# Altium footprint library alientek_sch_lib.PcbLib: 370 footprints (part 24 of 24)
Each footprint in its own frame and in the unit in brackets; x right, y up, seen from the top. Pads: shape width x height; smd on the part's side, far side on the other; paste and mask are expansions set on the pad; w line width, h text height; cw(c..) or ccw(c..) is an arc to the next point about the centre after c.
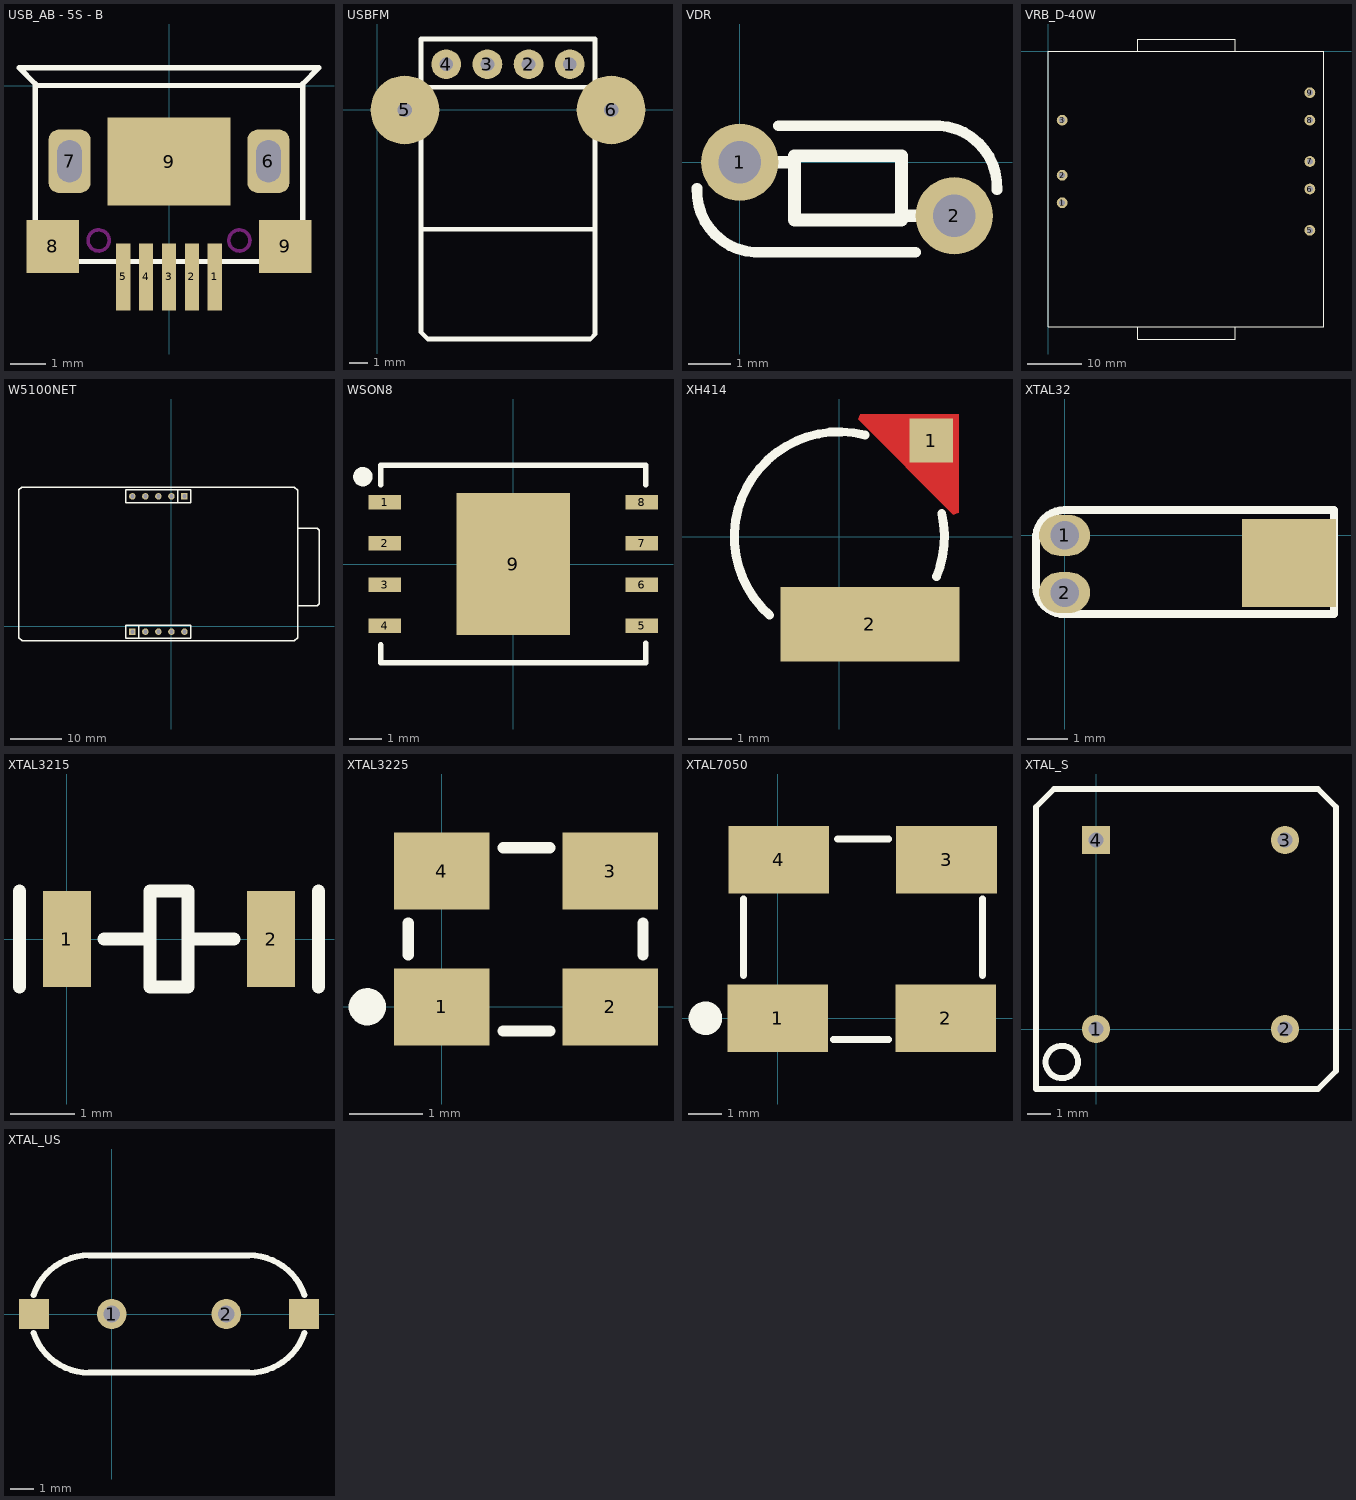
[diagram p23: the footprints below, top view; thin cyan lines are the x and y axes]

## USB_AB - 5S - B [mm] "Micro usb座 5pin"
height 3
pads (10):
  rect 0.4x1.9 smd: 1(1.3,-5.436) 2(0.65,-5.436) 3(0,-5.436) 4(-0.65,-5.436) 5(-1.3,-5.436)
  rrect50% 1.2x1.8 hole 0.7 slot 1.2 at 90 deg: 6(2.825,-2.15) 7(-2.825,-2.15)
  rect 1.5x1.5 smd: 8(-3.302,-4.572) 9(3.302,-4.572)
  rect 3.5x2.5 smd: 9(0,-2.159)
Top Overlay:
  lines w0.152: 3.8,0 -3.753,0 -3.8,0.047 ; -3.8,0.047 -4.261,0.508 4.261,0.508 3.8,0.047 3.8,-5 0,-5 -3.8,-5 -3.8,0.047
Keep-Out Layer:
  circle w0.102: c-2,-4.4 r0.3
  circle w0.102: c2,-4.4 r0.3

## USBFM [mil] "USBFM"
height 196.85
pads (6):
  round 65 hole 30: 1(420,100) 2(330,100) 3(240,100) 4(150,100)
  round 150 hole 31.5: 5(60,0) 6(510,0)
Top Overlay:
  lines w10: 95,-260 475,-260 ; 95,50 475,50 ; 95,-485 110,-500 465,-500 475,-490 475,-195 475,155 95,155 95,-195 95,-485

## VDR [mil] "PIN:5.08;SIZE:7*3;"
height 118.11
pads (2):
  round 72 hole 40: 1(0,0) 2(200,-50)
Top Overlay:
  lines w10: -39.86,-24.34 ccw(c17.09,-27.07) 14,-84 164,-84 ; 36,34 186,34 cw(c182.91,-22.93) 239.86,-25.66
  lines w12: 0,0 50,0 ; 150,-50 200,-50 ; 51,-54 151,-54 151,-24 151,6 51,6 51,-54

## VRB_D-40W [mm] "2'*2'*O.42'"
height 23
pads (8):
  round 2 hole 1.1: 1(2.54,-27.94) 2(2.54,-22.86) 3(2.54,-12.7) 5(48.26,-33.02) 6(48.26,-25.4) 7(48.26,-20.32) 8(48.26,-12.7) 9(48.26,-7.62)
Top Overlay:
  lines w0.178: 16.51,-50.8 16.51,-53.086 34.51,-53.086 34.51,-50.834 ; 16.51,0 16.51,2.286 34.51,2.286 34.51,0.034 ; 0,-50.8 50.8,-50.8 50.8,0 0,0 0,-50.8

## W5100NET [mil] "NET_FOOT"
pads (10):
  rect 50x50 hole 32: 1(101,1000) 6(-299,-40)
  round 50 hole 32: 2(1,1000) 3(-99,1000) 4(-199,1000) 5(-299,1000) 7(-199,-40) 8(-99,-40) 9(1,-40) 10(101,-40)
Top Overlay:
  lines w10: -1020,1070 945,1070 970,1045 970,-85 945,-110 -1145,-110 -1170,-85 -1170,1050 -1150,1070 -530,1070 ; -249,-90 -249,10 ; 51,950 51,1050 ; 970,160 1120,160 1135,175 1135,740 1120,755 975,755 970,750 ; -349,-90 -349,10 151,10 151,-90 -349,-90 ; -349,950 151,950 151,1050 -349,1050 -349,950

## WSON8 [mm] "WSON8 8-Leads, Body 6.1x8.1mm (max), Pitch 1.27mm, IPC Medium Density"
height 0.8
pads (9):
  rect 1x0.45 smd: 1(-3.975,1.905) 2(-3.975,0.635) 3(-3.975,-0.635) 4(-3.975,-1.905) 5(3.975,-1.905) 6(3.975,-0.635) 7(3.975,0.635) 8(3.975,1.905)
  rect 3.5x4.4 smd: 9(0,0)
Top Overlay:
  circle w0.3: c-4.65,2.7 r0.15
  lines w0.178: -4.1,-2.504 -4.1,-3.05 4.1,-3.05 4.1,-2.449 ; -4.1,2.449 -4.1,3.05 4.1,3.05 ; 4.1,2.449 4.1,3.048
Mechanical 15:
  lines w0.1: -0.5,0 0.5,0 ; 0,-0.5 0,0.5

## XH414 [mm] "BATTERY"
height 1.4
pads (2):
  rect 1x1 smd: 1(2.1,2.2)
  rect 4.1x1.7 smd: 2(0.7,-2)
Top Layer:
  region: 2.724,0.553 2.606,0.504 0.428,2.683 0.476,2.8 2.724,2.8
Top Overlay:
  lines w0.203: -1.594,-1.794 cw(c0,0) 0.582,2.328 ; 2.221,-0.909 ccw(c0,0) 2.34,0.532
Top Solder:
  region: 2.706,0.559 2.589,0.511 0.411,2.689 0.459,2.806 2.706,2.806

## XTAL32 [mil]
pads (3):
  oval 50x40 hole 28: 1(0,0) 2(0,-56)
  rect 92.13x86 smd: ""(220,-27)
Top Overlay:
  lines w8: -28,-50 ccw(c-0.5,-49.5) 0,-77 264,-77 264,25 0,25 ccw(c0.5,-3.5) -28,-4 -28,-50

## XTAL3215 [mm] "3.2mm*1.5mm"
height 0.9
pads (2):
  rect 0.75x1.5 smd: 1(0,0) 2(3.2,0)
Top Overlay:
  lines w0.203: -0.742,-0.75 -0.742,0.75 ; 0.578,0 1.3,0 ; 2,0 2.617,0 ; 3.942,-0.75 3.942,0.75 ; 1.3,-0.75 1.9,-0.75 1.9,0.75 1.3,0.75 1.3,-0.75

## XTAL3225 [mm] "3.2mm*2.5mm"
height 0.8
pads (4):
  rect 1.3x1.05 smd: 1(0,0) 2(2.3,0) 3(2.3,1.85) 4(0,1.85)
Top Overlay:
  circle w0.254: c-1.016,0 r0.127
  lines w0.152: -0.457,0.711 -0.457,1.143 ; 0.838,-0.33 1.473,-0.33 ; 0.838,2.17 1.473,2.17 ; 2.743,0.711 2.743,1.143

## XTAL7050 [mm] "7mm*5mm"
height 1
pads (4):
  rect 3x2 smd: 1(0,0) 2(5,0) 3(5.025,4.716) 4(0.025,4.716)
Top Overlay:
  circle w0.5: c-2.155,0 r0.25
  lines w0.203: -1.016,1.27 -1.016,3.556 ; 1.651,-0.635 3.302,-0.635 ; 1.778,5.334 3.302,5.334 ; 6.096,1.27 6.096,3.556

## XTAL_S [mm] "XTAL_OSC"
height 3
pads (4):
  round 1.2 hole 0.635: 1(0,0) 2(8.001,0) 3(8.001,8.001)
  rect 1.2x1.2 hole 0.635: 4(0,8.001)
Top Overlay:
  circle w0.254: c-1.446,-1.397 r0.684
  lines w0.254: -2.54,-2.54 9.398,-2.54 10.16,-1.778 10.16,9.398 9.398,10.16 -1.778,10.16 -2.54,9.398 -2.54,8.509 -2.54,-2.54

## XTAL_US [mil]
pads (4):
  round 50 hole 28: 1(0,0) 2(192.13,0)
  rect 50x50 smd: ""(-130.32,0) ""(322.44,0)
Top Overlay:
  lines w10: -130.92,-31.85 ccw(c-37.79,0) -37.79,-98.42 ; -130.92,31.85 cw(c-37.79,0) -37.79,98.43 ; -38,98.42 229.92,98.43 cw(c229.92,0) 323.05,31.85 ; -37.8,-98.43 229.92,-98.42 ccw(c229.92,0) 323.05,-31.85